# Altium integrated library LED.IntLib: 1 symbol
Pins are listed as number, name and electrical type; pins without a type are passive.

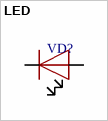
[diagram p0: symbol LED]

## LED
designator VD?
footprint LED-0603
pins: 1 C, 2 A